# EAGLE library part 74LVC125AD (library 74LVC125AD)
Check availability <https://pricing.snapeda.com/parts/74LVC125AD/NXP%20Semiconductors/view-part?ref=eda>
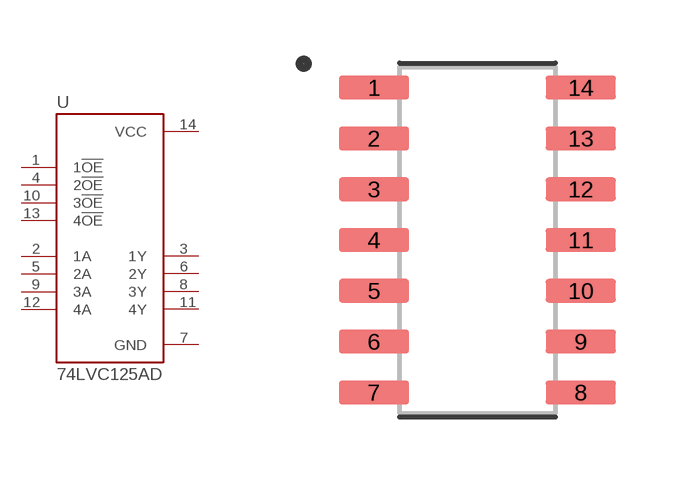
[diagram p0: symbol with the pads of SOIC127P600X175-14N; footprint SOIC127P600X175-14N]

Designator prefix U

## 74LVC125AD (Availability: In Stock; Description: Buffer/Line Driver 4-CH Non-Inverting 3-ST CMOS 14-Pin SO; MF: NXP Semiconductors; MP: 74LVC125AD; Package: SOIC-14 NXP Semiconductors; Price: None; Purchase-URL: https://pricing.snapeda.com/search/part/74LVC125AD/?ref=eda)  [SOIC127P600X175-14N]
1  1!OE!  in
2  1A  in
3  1Y  out
4  2!OE!  in
5  2A  in
6  2Y  out
7  GND  pwr
8  3Y  out
9  3A  in
10  3!OE!  in
11  4Y  out
12  4A  in
13  4!OE!  in
14  VCC  pwr

## Footprint SOIC127P600X175-14N (pad centres in mm)
smd 1.75 x 0.59: 1 -2.585,3.81; 2 -2.585,2.54; 3 -2.585,1.27; 4 -2.585,0; 5 -2.585,-1.27; 6 -2.585,-2.54; 7 -2.585,-3.81; 8 2.585,-3.81; 9 2.585,-2.54; 10 2.585,-1.27; 11 2.585,0; 12 2.585,1.27; 13 2.585,2.54; 14 2.585,3.81